# Altium footprint library PcbLib1.PcbLib: 4 footprints
Each footprint in its own frame and in the unit in brackets; x right, y up, seen from the top. Pads: shape width x height; smd on the part's side, far side on the other; paste and mask are expansions set on the pad; w line width, h text height; cw(c..) or ccw(c..) is an arc to the next point about the centre after c.
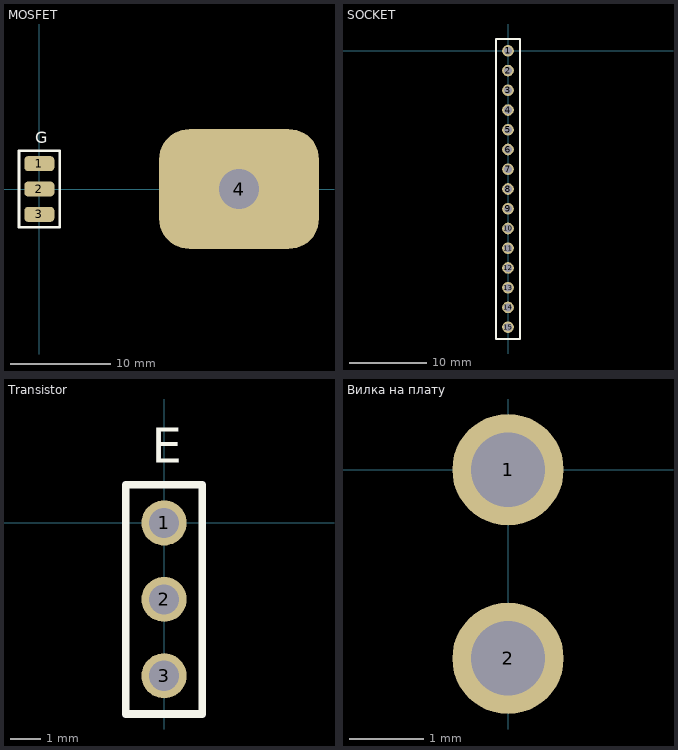
[diagram p0: the footprints below, top view; thin cyan lines are the x and y axes]

## MOSFET [mm]
pads (4):
  rrect50% 3x1.5 smd: 1(0,2.54) 2(0,0) 3(0,-2.54)
  rrect50% 16x12 hole 4: 4(20,0)
Top Overlay:
  lines w0.254: -2.032,-3.81 2.032,-3.81 2.032,3.81 -2.032,3.81 -2.032,-3.81
  text "G" at -0.389,4.159 h2
3D body "TO-220-1.step": height 4.6, standoff 0, extent -7.4,-5.25 22.8,5.25

## SOCKET [mm]
pads (15):
  round 1.5 hole 1: 1(0,0) 2(0,-2.54) 3(0,-5.08) 4(0,-7.62) 5(0,-10.16) 6(0,-12.7) 7(0,-15.24) 8(0,-17.78) 9(0,-20.32) 10(0,-22.86) 11(0,-25.4) 12(0,-27.94) 13(0,-30.48) 14(0,-33.02) 15(0,-35.56)
Top Overlay:
  lines w0.254: -1.524,-37.084 1.524,-37.084 1.524,1.524 -1.524,1.524 -1.524,-37.084
3D body "Samtec-SSW-110-03-T-S.STEP": height 8.51, standoff -10.01, extent -1.143,-24.384 1.27,1.524
3D body "Samtec-SSW-105-03-T-S.STEP": height 8.51, standoff -10.01, extent -1.143,-37.084 1.27,-23.876

## Transistor [mm]
pads (3):
  round 1.5 hole 1: 1(0,0) 2(0,-2.54) 3(0,-5.08)
Top Overlay:
  lines w0.254: -1.27,-6.35 1.27,-6.35 1.27,1.27 -1.27,1.27 -1.27,-6.35
  text "E" at -0.405,1.62 h2
3D body "Samtec-SSW-103-03-T-S.STEP": height 8.51, standoff -10.01, extent -1.206,-6.604 1.206,1.524

## Вилка на плату [mm]
pads (2):
  round 1.5 hole 1: 1(0,0) 2(0,-2.54)
3D body "Samtec-SSW-102-03-T-S.STEP": height 8.51, standoff -10.01, extent -1.206,-4.064 1.206,1.524